# Altium schematic symbol library TPS25961.SchLib: 1 symbol
Pins are listed as number, name and electrical type; pins without a type are passive.

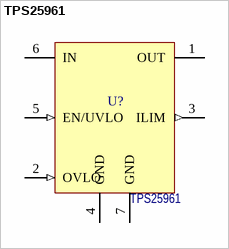
[diagram p0: symbol TPS25961]

## TPS25961
designator U?
eFuse with adjustable current limit and short-circuit / protection,  2.7-V–19-V; Потребление, Вт: 0.0; Назначение: eFuse with adjustable current limit and short-circuit; ComponentLink1Description: DataSheet; ComponentLink1URL: https://www.ti.com/lit/ds/symlink/tps25961.pdf?ts=1741580845314&ref_url=https%253A%252F%252Fwww.ti.com%252Fproduct%252FTPS25961; Наименование: TPS25961
footprint VSON-6 DRV
pins: 1 OUT (power), 2 OVLO (in), 3 ILIM (out), 4 GND (power), 5 EN/UVLO (in), 6 IN (power), 7 GND (power)